# EAGLE library part LM2678DX-5.0 (library Power PCB)
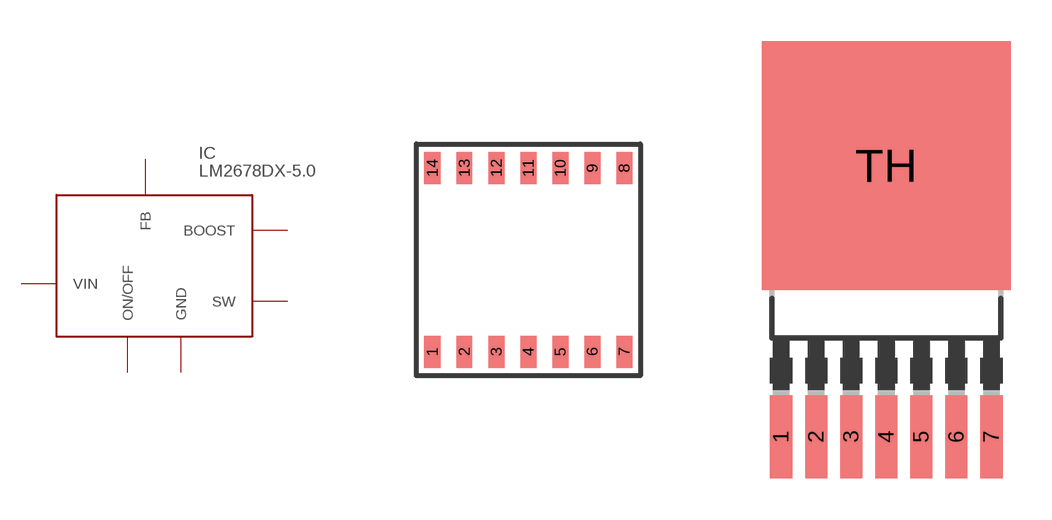
[diagram p0: symbol with the pads of VSON-14; footprints VSON-14, P-TO263-7-1]

Designator prefix IC

## LM2678DX-5.0  [VSON-14]
2  VIN
3  VIN
4  BOOST
7  FB
8  ON/OFF
9  GND
12  SW
13  SW
14  SW

## LM2678DX-5.0SX-5.0  [P-TO263-7-1]
1  SW
2  VIN
3  BOOST
4  GND
6  FB
7  ON/OFF
TH  GND

## Footprint VSON-14 (pad centres in mm)
smd 0.4 x 0.8: 1 -2.4,0; 2 -1.6,0; 3 -0.8,0; 4 0,0; 5 0.8,0; 6 1.6,0; 7 2.4,0; 8 2.4,4.6; 9 1.6,4.6; 10 0.8,4.6; 11 0,4.6; 12 -0.8,4.6; 13 -1.6,4.6; 14 -2.4,4.6

## Footprint P-TO263-7-1 (pad centres in mm)
P-TO263-7-1 (Plastic Transistor Single Outline) Source: Infineon .. tle4242.pdf
smd 0.8 x 3: 1 -3.81,-3.475; 2 -2.54,-3.475; 3 -1.27,-3.475; 4 0,-3.475; 5 1.27,-3.475; 6 2.54,-3.475; 7 3.81,-3.475
smd 9 x 9: TH 0,6.35